# Altium footprint library LED Indication - Discrete.PcbLib: 3 footprints
Each footprint in its own frame and in the unit in brackets; x right, y up, seen from the top. Pads: shape width x height; smd on the part's side, far side on the other; paste and mask are expansions set on the pad; w line width, h text height; cw(c..) or ccw(c..) is an arc to the next point about the centre after c.
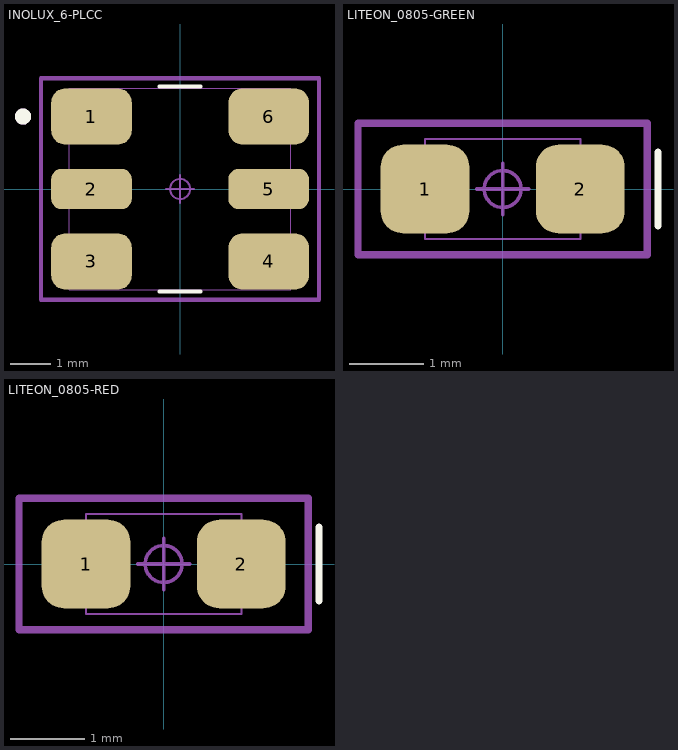
[diagram p0: the footprints below, top view; thin cyan lines are the x and y axes]

## INOLUX_6-PLCC [mm]
pads (6):
  rrect50% 2x1.4 smd: 1(-2.2,1.8) 3(-2.2,-1.8) 4(2.2,-1.8) 6(2.2,1.8)
  rrect50% 2x1 smd: 2(-2.2,0) 5(2.2,0)
Top Overlay:
  circle w0.2: c-3.9,1.8 r0.1
  lines w0.1: -0.508,-2.54 0.508,-2.54 ; -0.508,2.54 0.508,2.54
Mechanical 13:
  circle w0.2: c-3.9,1.8 r0.1
  lines w0.025: -2.75,-2.5 -2.75,2.5 2.75,2.5 2.75,-2.5 -2.75,-2.5
Mechanical 15:
  circle w0.05: c0,0 r0.25
  lines w0.05: -0.35,0 0.35,0 ; 0,-0.35 0,0.35
  lines w0.1: -3.45,-2.75 -3.45,2.75 3.45,2.75 3.45,-2.75 -3.45,-2.75
3D body "IN-P55TATRGB--3DModel-STEP-56544.STEP": height 1.5, standoff 0, extent -2.75,-2.5 2.75,2.5

## LITEON_0805-GREEN [mm]
pads (2):
  rrect50% 1.2x1.2 smd mask+0.04: 1(-1.05,0) 2(1.05,0)
Top Overlay:
  lines w0.1: 2.1,-0.5 2.1,0.5
Mechanical 13:
  lines w0.025: -1.05,-0.675 -1.05,0.675 1.05,0.675 1.05,-0.675 -1.05,-0.675
Mechanical 15:
  circle w0.05: c0,0 r0.25
  lines w0.05: -0.35,0 0.35,0 ; 0,-0.35 0,0.35
  lines w0.1: -1.956,-0.889 -1.956,0.889 1.956,0.889 1.956,-0.889 -1.956,-0.889
3D body "LED-0805-Green.step": height 1.1, standoff 0, extent -1.05,-0.675 1.05,0.675

## LITEON_0805-RED [mm]
pads (2):
  rrect50% 1.2x1.2 smd mask+0.04: 1(-1.05,0) 2(1.05,0)
Top Overlay:
  lines w0.1: 2.1,-0.5 2.1,0.5
Mechanical 13:
  lines w0.025: -1.05,-0.675 -1.05,0.675 1.05,0.675 1.05,-0.675 -1.05,-0.675
Mechanical 15:
  circle w0.05: c0,0 r0.25
  lines w0.05: -0.35,0 0.35,0 ; 0,-0.35 0,0.35
  lines w0.1: -1.956,-0.889 -1.956,0.889 1.956,0.889 1.956,-0.889 -1.956,-0.889
3D body "LED-0805.step": height 1.1, standoff 0, extent -1.05,-0.675 1.05,0.675